# EAGLE library part E14_ARDUINO_REVB_ARDUINO_NANO (library librariesTUTUPA V2.5sch)
Device for representing an Arduino Nano board with a footprint in an EAGLE design. Created by Dave Young for Element14. More EAGLE documentation at: http://www.element14.com/community/community/knode/cadsoft_eagle
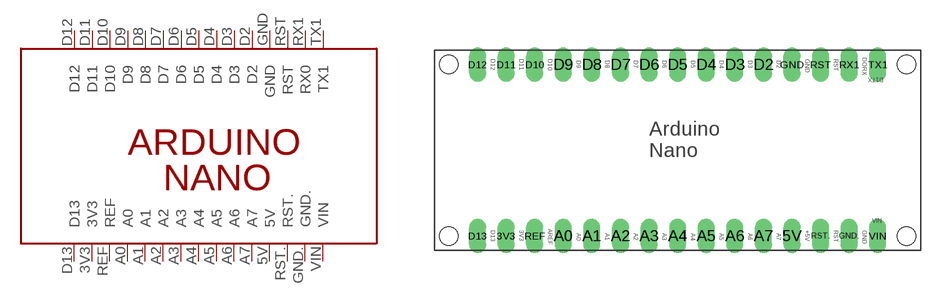
[diagram p1: symbol with the pads of E14_ARDUINO_REVB_ARDUINO_NANO; footprint E14_ARDUINO_REVB_ARDUINO_NANO]

Designator prefix PCB

## E14_ARDUINO_REVB_ARDUINO_NANO  [E14_ARDUINO_REVB_ARDUINO_NANO]
3V3  3V3
5V  5V
A0  A0
A1  A1
A2  A2
A3  A3
A4  A4
A5  A5
A6  A6
A7  A7
D2  D2
D3  D3
D4  D4
D5  D5
D6  D6
D7  D7
D8  D8
D9  D9
D10  D10
D11  D11
D12  D12
D13  D13
GND  GND
GND.  GND.
REF  REF
RST  RST
RST.  RST.
RX1  RX0
TX1  TX1
VIN  VIN

## Footprint E14_ARDUINO_REVB_ARDUINO_NANO (pad centres in mm)
Footprint for representing an Arduino Nano board in an EAGLE schematic. Created by Dave Young for Element14. More EAGLE documentation at: http://www.element14.com/community/community/knode/cadsoft_eagle
drill 1.016 pad 1.422 long: 3V3 6.35,1.27; 5V 31.75,1.27; A0 11.43,1.27; A1 13.97,1.27; A2 16.51,1.27; A3 19.05,1.27; A4 21.59,1.27; A5 24.13,1.27; A6 26.67,1.27; A7 29.21,1.27; D2 29.21,16.51; D3 26.67,16.51; D4 24.13,16.51; D5 21.59,16.51; D6 19.05,16.51; D7 16.51,16.51; D8 13.97,16.51; D9 11.43,16.51; D10 8.89,16.51; D11 6.35,16.51; D12 3.81,16.51; D13 3.81,1.27; GND 31.75,16.51; GND. 36.83,1.27; REF 8.89,1.27; RST 34.29,16.51; RST. 34.29,1.27; RX1 36.83,16.51; TX1 39.37,16.51; VIN 39.37,1.27
hole 1.651 at 1.27,1.27
hole 1.651 at 1.27,16.51
hole 1.651 at 41.91,16.51
hole 1.651 at 41.91,1.27